# Altium schematic symbol library Schematic_Library_1.SchLib: 6 symbols
Pins are listed as number, name and electrical type; pins without a type are passive.

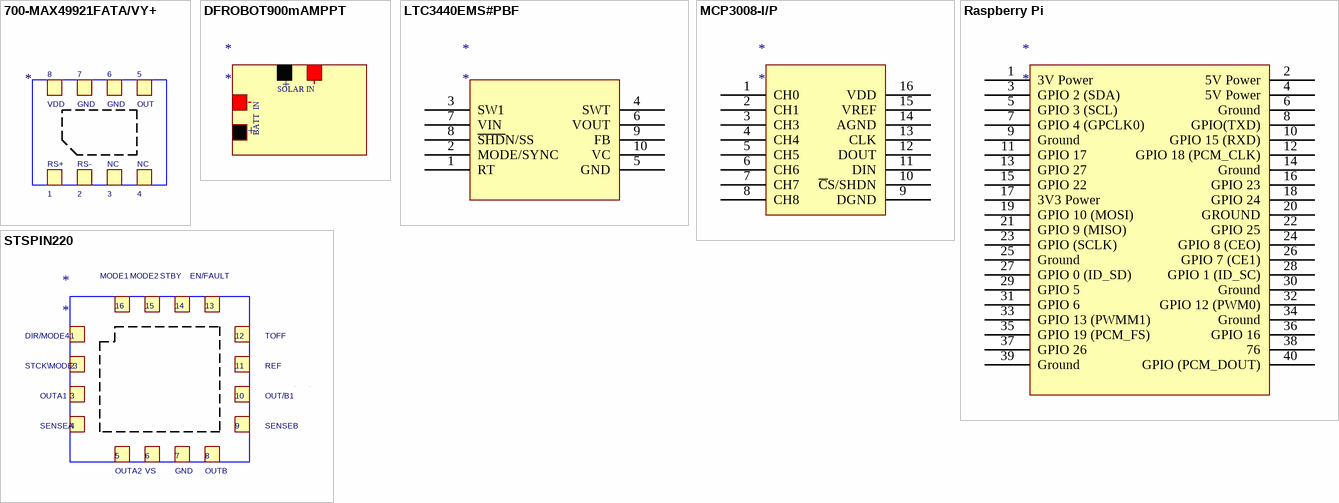
[diagram p0: symbols 700-MAX49921FATA/VY+ to STSPIN220]

## 700-MAX49921FATA/VY+
designator ?
Current Sense Amplifier
text: 8; 7; 6; 5; VDD; GND; OUT; RS+; RS-; NC; 1; 2; 3; 4

## DFROBOT900mAMPPT
designator *
Charge Controller
text: +; -; SOLAR IN; BATT  IN

## LTC3440EMS#PBF
designator *
Buck Boost Converter
footprint Model Name (Footprint not found)
pins: 1 RT, 2 MODE/SYNC, 3 SW1, 4 SWT, 5 GND, 6 VOUT, 7 VIN, 8 ~{SHD}N/SS, 9 FB, 10 VC

## MCP3008-I/P
designator *
Analog to Digital Converter
pins: 1 CH0, 2 CH1, 3 CH3, 4 CH4, 5 CH5, 6 CH6, 7 CH7, 8 CH8, 9 DGND, 10 ~{C}S/SHDN, 11 DIN, 12 DOUT, 13 CLK, 14 AGND, 15 VREF, 16 VDD

## Raspberry Pi
designator *
pins: 1 3V Power, 2 5V Power, 3 GPIO 2 (SDA), 4 5V Power, 5 GPIO 3 (SCL), 6 Ground, 7 GPIO 4 (GPCLK0), 8 GPIO(TXD), 9 Ground, 10 GPIO 15 (RXD), 11 GPIO 17, 12 GPIO 18 (PCM_CLK), 13 GPIO 27, 14 Ground, 15 GPIO 22, 16 GPIO 23, 17 3V3 Power, 18 GPIO 24, 19 GPIO 10 (MOSI), 20 GROUND, 21 GPIO 9 (MISO), 22 GPIO 25, 23 GPIO (SCLK), 24 GPIO 8 (CEO), 25 Ground, 26 GPIO 7 (CE1), 27 GPIO 0 (ID_SD), 28 GPIO 1 (ID_SC), 29 GPIO 5, 30 Ground, 31 GPIO 6, 32 GPIO 12 (PWM0), 33 GPIO 13 (PWMM1), 34 Ground, 35 GPIO 19 (PCM_FS), 36 GPIO 16, 37 GPIO 26, 38 76, 39 Ground, 40 GPIO (PCM_DOUT)

## STSPIN220
designator *
Motor Driver
text: MODE1; MODE2; STBY; EN/FAULT; 16; 15; 14; 13; DIR/MODE4; 1; 12; TOFF; STCK\MODE3; 2; 11; REF; OUTA1; 3; 10; OUT/B1; SENSEA; 4; 9; SENSEB; 5; 6; 7; 8; OUTA2; VS; GND; OUTB